# Altium footprint library Other.PcbLib: 20 footprints (part 1 of 2)
Each footprint in its own frame and in the unit in brackets; x right, y up, seen from the top. Pads: shape width x height; smd on the part's side, far side on the other; paste and mask are expansions set on the pad; w line width, h text height; cw(c..) or ccw(c..) is an arc to the next point about the centre after c.
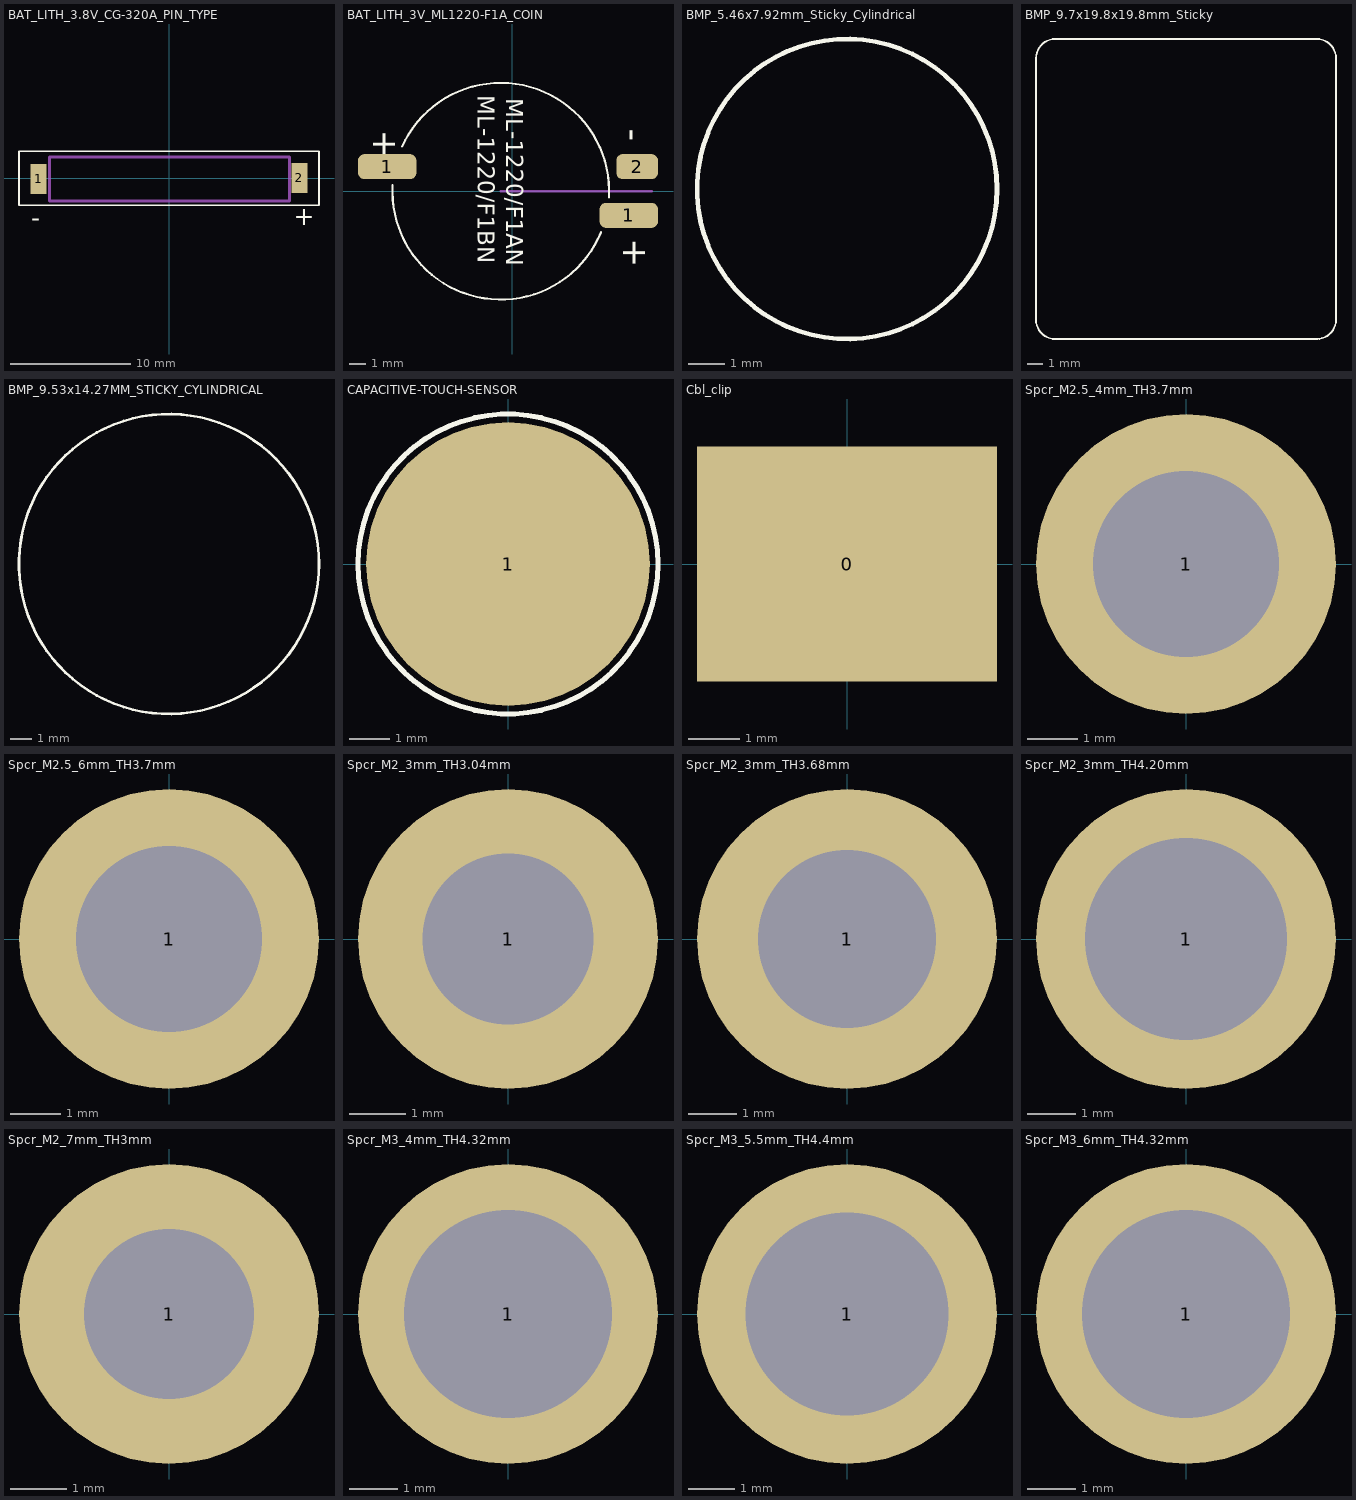
[diagram p0: the footprints below, top view; thin cyan lines are the x and y axes]

## BAT_LITH_3.8V_CG-320A_PIN_TYPE [mm] "20220103 / A-F.Romo"
pads (2):
  rect 1.35x2.5 smd: 1(-10.871,-0.047) 2(10.871,0.047)
Top Overlay:
  lines w0.127: -12.5,-2.25 12.5,-2.25 12.5,2.25 -12.5,2.25 -12.5,-2.25
  text "-" at -11.468,-4.017 h1.52
  text "+" at 10.376,-3.89 h1.52
Mechanical 1:
  lines w0.254: -9.962,-1.872 10.038,-1.872 10.038,1.778 -9.962,1.778 -9.962,-1.872
3D body: height 3.65, standoff 0, extent -10,-1.825 10,1.825

## BAT_LITH_3V_ML1220-F1A_COIN [mm] "/20200714/N-A.Potosi"
height 2.6
pads (3):
  rrect50% 3.5x1.5 smd: 1(-7.5,1.461) 1(7,-1.461)
  rrect50% 2.5x1.5 smd: 2(7.5,1.461)
Top Overlay:
  lines w0.127: -7.175,0.349 ccw(c-0.685,-0.013) 5.33,-2.474 ; -6.607,2.667 cw(c-0.685,-0.013) 5.804,-0.375
  text "ML-1220/F1BN" at -2.062,5.737 h1.02
  text "ML-1220/F1AN" at -0.367,5.554 h1.02
  text "+" at 6.651,-2.83 h1.52
  text "+" at -8.349,3.67 h1.52
  text "-" at 6.565,3.737 h1.52
Mechanical 1:
  lines w0.152: -0.685,-0.013 8.365,-0.013
3D body "User Library-ML-1220-F1AN.step": height 2.75, standoff 0.05, extent -8.485,-6.287 8.365,6.313

## BMP_5.46x7.92mm_Sticky_Cylindrical [mm] "Adhesive, Rubber/ 20190724/ C-D Viveros"
Top Overlay:
  circle w0.127: c1270,1270 r4.1
3D body: height 5.46, standoff 0, extent 1266.04,1266.043 1273.96,1273.957

## BMP_9.7x19.8x19.8mm_Sticky [mm] "Adhesive, Rubber / 20190301 / N-A.Potosi"
Top Overlay:
  lines w0.127: 1259.771,1261.631 ccw(c1261.041,1261.631) 1261.041,1260.361 ; 1259.773,1261.649 1259.773,1278.882 ; 1259.773,1278.892 cw(c1261.043,1278.892) 1261.043,1280.162 ; 1261.053,1280.162 1278.323,1280.162 ; 1261.059,1260.362 1278.341,1260.362 ; 1278.303,1260.361 ccw(c1278.303,1261.631) 1279.573,1261.631 ; 1278.303,1280.162 cw(c1278.303,1278.892) 1279.573,1278.892 ; 1279.573,1261.594 1279.573,1278.912
3D body: height 9.7, standoff 0, extent 1259.769,1260.36 1279.572,1280.163

## BMP_9.53x14.27MM_STICKY_CYLINDRICAL [mm] "20221012 /  E.Naranjo"
Top Overlay:
  circle w0.127: c1270,1270 r7.135
3D body "BUMPER CYLIN 0.562in DIA BLACK.stp": height 9.5, standoff 0, extent 1262.847,1262.85 1277.141,1277.15

## CAPACITIVE-TOUCH-SENSOR [mm] "20220429 / E.Naranjo"
pads (1):
  round 7 smd paste-7 mask+0.102: 1(0,0)
Top Overlay:
  circle w0.127: c0,0 r3.7

## Cbl_clip [mil] "/20200406/V-A.Patino"
pads (1):
  rect 230x180 smd: 0(0,0)
3D body "CableClip.step": height 81.68, standoff 0.49, extent -99.56,-87.86 98.11,86.95

## Spcr_M2.5_4mm_TH3.7mm [mm] "/20230220/N-A.Potosi"
pads (1):
  round 5.993 hole 3.707: 1(0,0)
3D body "Download_STP_9774040151R_rev1.stp": height 4, standoff -1.4, extent -2.55,-2.547 2.55,2.547

## Spcr_M2.5_6mm_TH3.7mm [mm] "/20230220/N-A.Potosi"
pads (1):
  round 5.993 hole 3.707: 1(0,0)
3D body "Download_STP_9774060151_rev1.stp": height 6, standoff -1.4, extent -2.55,-2.547 2.55,2.547

## Spcr_M2_3mm_TH3.04mm [mil] "/20210420/J-E.Pachon"
pads (1):
  round 210 hole 120: 1(0,0)
3D body "9774030243R (rev1).stp": height 114.17, standoff -59.06, extent -84.32,-82.89 86.94,88.12

## Spcr_M2_3mm_TH3.68mm [mil] "/20210224/J-E.Pachon"
pads (1):
  round 245 hole 145: 1(0,0)
3D body "KVT SMTSO-M2-3 gegurtet mit Klebepunkten.stp": height 118.16, standoff -60.29, extent -109.47,-109.38 109.51,109.39

## Spcr_M2_3mm_TH4.20mm [mil] "/20230707/J-A.Sepulveda"
pads (1):
  round 245 hole 165.35: 1(0,0)
3D body "T56M20E41-3015TP(1215).stp": height 118.61, standoff -59.34, extent -109.45,-109.44 109.45,109.46

## Spcr_M2_7mm_TH3mm [mm] "/20230707/J-A.Sepulveda"
pads (1):
  round 5.3 hole 3: 1(0,0)
3D body "T435M20E28-7014TP_9774070243R.stp": height 7.01, standoff -1.39, extent -2.175,-2.175 2.175,2.175

## Spcr_M3_4mm_TH4.32mm [mil] "/20220928/J. Jaramillo"
pads (1):
  round 245 hole 170: 1(0,0)
3D body "SMTSO-M3-4ET-PennEngineering-3D-09-28-2022.stp": height 158.08, standoff -59.75, extent -109.56,-109.45 109.45,109.45

## Spcr_M3_5.5mm_TH4.4mm [mm] "/20220314/C-D Viveros"
pads (1):
  round 6.5 hole 4.4: 1(0,0)
3D body "STANDOFF_T60M30E42-5516T.STEP": height 5.51, standoff -1.59, extent -3,-3 3,3

## Spcr_M3_6mm_TH4.32mm [mil] "/20201202/M-C.CALDERON"
pads (1):
  round 245 hole 170: 1(0,0)
3D body "SMTSO-M3-6ET-PennEngineering-3D-12-02-2020.stp": height 236.83, standoff -59.74, extent -109.45,-109.45 109.45,109.6